# EAGLE library part SM06B-SRSS-TB(LF)(SN) (library SM06B-SRSS-TB(LF)(SN))
JST (JAPAN SOLDERLESS TERMINALS) - SM06B-SRSS-TB(LF)(SN) - CONNECTOR, HEADER, SMT, R/A, 1MM, 6WAY Source: Datasheet <http://www.jst-mfg.com/product/pdf/eng/eSH.pdf>
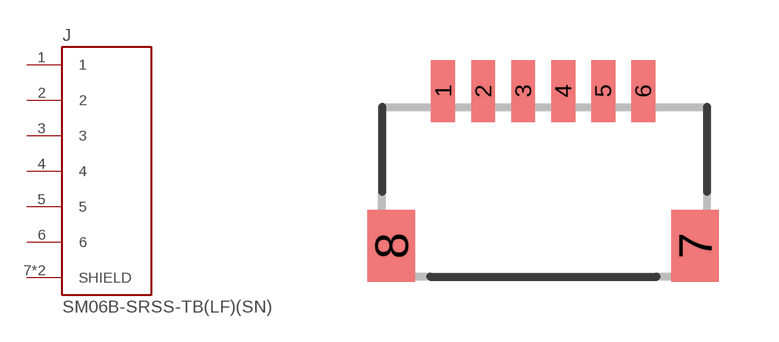
[diagram p0: symbol with the pads of SM06B-SRSS-B; footprint SM06B-SRSS-B]

Designator prefix J

## SM06B-SRSS-TB(LF)(SN)  [SM06B-SRSS-B]
1  1
2  2
3  3
4  4
5  5
6  6
7  SHIELD  nc
8  SHIELD  nc

## Footprint SM06B-SRSS-B (pad centres in mm)
SM06B-SRSS-B
smd 0.6 x 1.55: 1 -2.5,2.432; 2 -1.5,2.432; 3 -0.5,2.432; 4 0.5,2.432; 5 1.5,2.432; 6 2.5,2.432
smd 1.2 x 1.8: 7 3.8,-1.443; 8 -3.8,-1.443